# EAGLE library part MPU-9150 (library custom-devices)
Nine-Axis (Gyro + Accelerometer + Compass) MEMS MotionTracking™ Device
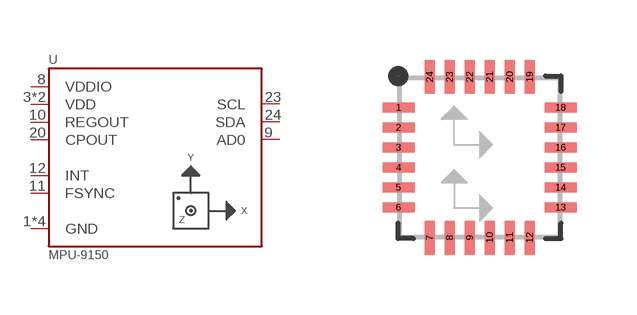
[diagram p16: symbol with the pads of MPU-4X4; footprint MPU-4X4]

Designator prefix U

## MPU-9150 (DIGI-KEY: 1428-1009-1-ND)  [MPU-4X4]
1  GND
3  VDD
8  VDDIO
9  AD0
10  REGOUT
11  FSYNC
12  INT
13  VDD
15  GND
17  GND
18  GND
20  CPOUT
23  SCL
24  SDA

## Footprint MPU-4X4 (pad centres in mm)
smd 0.8 x 0.25: 1 -2.025,1.25; 2 -2.025,0.75; 3 -2.025,0.25; 4 -2.025,-0.25; 5 -2.025,-0.75; 6 -2.025,-1.25; 13 2.025,-1.25; 14 2.025,-0.75; 15 2.025,-0.25; 16 2.025,0.25; 17 2.025,0.75; 18 2.025,1.25
smd 0.25 x 0.85: 7 -1.25,-2.013; 8 -0.75,-2.013; 9 -0.25,-2.013; 10 0.25,-2.013; 11 0.75,-2.013; 12 1.25,-2.013; 19 1.25,2.013; 20 0.75,2.013; 21 0.25,2.013; 22 -0.25,2.013; 23 -0.75,2.013; 24 -1.25,2.013